# EAGLE library part PDC-X-Y (library custom_parts)
MiniCircuits directional coupler, A01 case
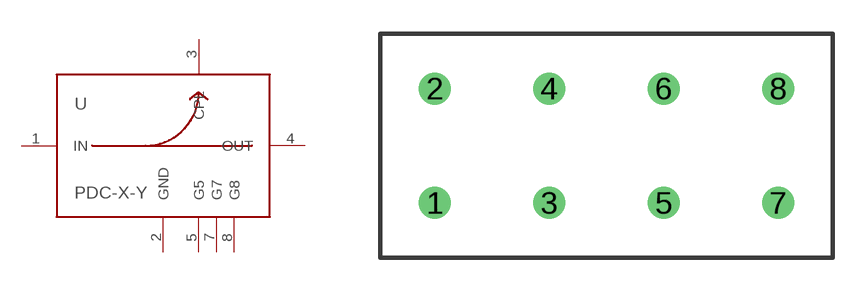
[diagram p15: symbol with the pads of A01; footprint A01]

Designator prefix -

## PDC-X-Y  [A01]
1  IN  in
2  GND  sup
3  CPL  out
4  OUT  out
5  G5  sup
7  G7  sup
8  G8  sup

## Footprint A01 (pad centres in mm)
CASE STYLE A01 Source: minicircuits.com .. PBP-10.7+.pdf
drill 0.9 pad 1.422: 1 -7.62,-2.54; 2 -7.62,2.54; 3 -2.54,-2.54; 4 -2.54,2.54; 5 2.54,-2.54; 6 2.54,2.54; 7 7.62,-2.54; 8 7.62,2.54